# Altium integrated library Altium_WCAP-CSGP (rev22a).IntLib: 953 symbols (part 3 of 17)
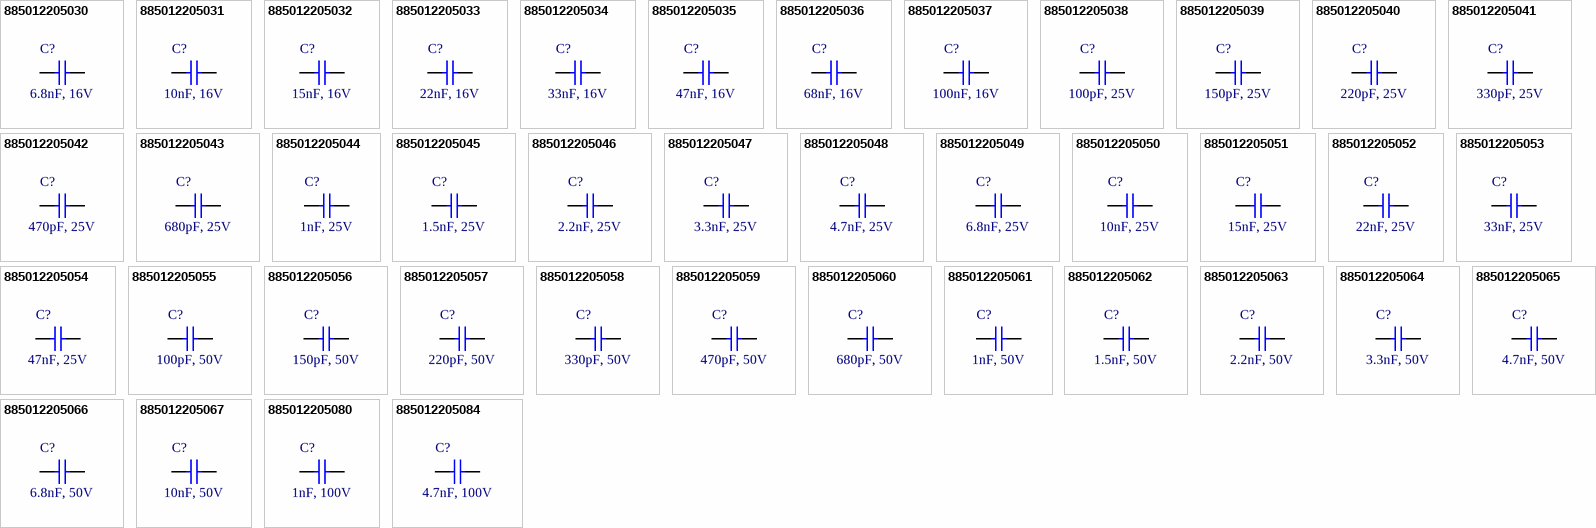
[diagram p29: symbols 885012205030 to 885012205084]

## 885012205030
designator C?, comment 6.8nF, 16V
WCAP-CSGP Multilayer Ceramic Chip Capacitor, General Purpose, size 0402, X7R, 6.8nF, 16V; Manufacturer: Wurth Elektronik; Manufacturer Part Number: 885012205030; Capacitance Tolerance: +/-10%; Dissipation Factor: 3.5%; Isolation Resistance: 10GOhm; Technical Reference: X7R0402682K016DFCT10000; Capacitance: 6.8nF; Ceramic Type: X7R; ComponentLink1Description: Manufacturer Link; ComponentLink1URL: http://www.we-online.de; ComponentLink2Description: Datasheet; ComponentLink2URL: https://www.we-online.com/catalog/datasheet/885012205030.pdf; Height: 0.5mm; Length: 1mm; Mounting Technology: SMT; Operating Temperature max.: 125C; Operating Temperature min.: -55C; Packaging: Tape and Reel; Rated Voltage: 16V; Size: 0402; Width: 0.5mm
footprint WCAP-CSGP_0402_L1W0.5H0.5
pins: 1, 2

## 885012205031
designator C?, comment 10nF, 16V
WCAP-CSGP Multilayer Ceramic Chip Capacitor, General Purpose, size 0402, X7R, 10nF, 16V; Manufacturer: Wurth Elektronik; Manufacturer Part Number: 885012205031; Capacitance Tolerance: +/-10%; Dissipation Factor: 3.5%; Isolation Resistance: 10GOhm; Technical Reference: X7R0402103K016DFCT10000; Capacitance: 10nF; Ceramic Type: X7R; ComponentLink1Description: Manufacturer Link; ComponentLink1URL: http://www.we-online.de; ComponentLink2Description: Datasheet; ComponentLink2URL: https://www.we-online.com/catalog/datasheet/885012205031.pdf; Height: 0.5mm; Length: 1mm; Mounting Technology: SMT; Operating Temperature max.: 125C; Operating Temperature min.: -55C; Packaging: Tape and Reel; Rated Voltage: 16V; Size: 0402; Width: 0.5mm
footprint WCAP-CSGP_0402_L1W0.5H0.5
pins: 1, 2

## 885012205032
designator C?, comment 15nF, 16V
WCAP-CSGP Multilayer Ceramic Chip Capacitor, General Purpose, size 0402, X7R, 15nF, 16V; Manufacturer: Wurth Elektronik; Manufacturer Part Number: 885012205032; Capacitance Tolerance: +/-10%; Dissipation Factor: 3.5%; Isolation Resistance: 10GOhm; Technical Reference: X7R0402153K016DFCT10000; Capacitance: 15nF; Ceramic Type: X7R; ComponentLink1Description: Manufacturer Link; ComponentLink1URL: http://www.we-online.de; ComponentLink2Description: Datasheet; ComponentLink2URL: https://www.we-online.com/catalog/datasheet/885012205032.pdf; Height: 0.5mm; Length: 1mm; Mounting Technology: SMT; Operating Temperature max.: 125C; Operating Temperature min.: -55C; Packaging: Tape and Reel; Rated Voltage: 16V; Size: 0402; Width: 0.5mm
footprint WCAP-CSGP_0402_L1W0.5H0.5
pins: 1, 2

## 885012205033
designator C?, comment 22nF, 16V
WCAP-CSGP Multilayer Ceramic Chip Capacitor, General Purpose, size 0402, X7R, 22nF, 16V; Manufacturer: Wurth Elektronik; Manufacturer Part Number: 885012205033; Capacitance Tolerance: +/-10%; Dissipation Factor: 3.5%; Isolation Resistance: 10GOhm; Technical Reference: X7R0402223K016DFCT10000; Capacitance: 22nF; Ceramic Type: X7R; ComponentLink1Description: Manufacturer Link; ComponentLink1URL: http://www.we-online.de; ComponentLink2Description: Datasheet; ComponentLink2URL: https://www.we-online.com/catalog/datasheet/885012205033.pdf; Height: 0.5mm; Length: 1mm; Mounting Technology: SMT; Operating Temperature max.: 125C; Operating Temperature min.: -55C; Packaging: Tape and Reel; Rated Voltage: 16V; Size: 0402; Width: 0.5mm
footprint WCAP-CSGP_0402_L1W0.5H0.5
pins: 1, 2

## 885012205034
designator C?, comment 33nF, 16V
WCAP-CSGP Multilayer Ceramic Chip Capacitor, General Purpose, size 0402, X7R, 33nF, 16V; Manufacturer: Wurth Elektronik; Manufacturer Part Number: 885012205034; Capacitance Tolerance: +/-10%; Dissipation Factor: 5%; Isolation Resistance: 10GOhm; Technical Reference: X7R0402333K016DFCT10000; Capacitance: 33nF; Ceramic Type: X7R; ComponentLink1Description: Manufacturer Link; ComponentLink1URL: http://www.we-online.de; ComponentLink2Description: Datasheet; ComponentLink2URL: https://www.we-online.com/catalog/datasheet/885012205034.pdf; Height: 0.5mm; Length: 1mm; Mounting Technology: SMT; Operating Temperature max.: 125C; Operating Temperature min.: -55C; Packaging: Tape and Reel; Rated Voltage: 16V; Size: 0402; Width: 0.5mm
footprint WCAP-CSGP_0402_L1W0.5H0.5
pins: 1, 2

## 885012205035
designator C?, comment 47nF, 16V
WCAP-CSGP Multilayer Ceramic Chip Capacitor, General Purpose, size 0402, X7R, 47nF, 16V; Manufacturer: Wurth Elektronik; Manufacturer Part Number: 885012205035; Capacitance Tolerance: +/-10%; Dissipation Factor: 5%; Isolation Resistance: 10GOhm; Technical Reference: X7R0402473K016DFCT10000; Capacitance: 47nF; Ceramic Type: X7R; ComponentLink1Description: Manufacturer Link; ComponentLink1URL: http://www.we-online.de; ComponentLink2Description: Datasheet; ComponentLink2URL: https://www.we-online.com/catalog/datasheet/885012205035.pdf; Height: 0.5mm; Length: 1mm; Mounting Technology: SMT; Operating Temperature max.: 125C; Operating Temperature min.: -55C; Packaging: Tape and Reel; Rated Voltage: 16V; Size: 0402; Width: 0.5mm
footprint WCAP-CSGP_0402_L1W0.5H0.5
pins: 1, 2

## 885012205036
designator C?, comment 68nF, 16V
WCAP-CSGP Multilayer Ceramic Chip Capacitor, General Purpose, size 0402, X7R, 68nF, 16V; Manufacturer: Wurth Elektronik; Manufacturer Part Number: 885012205036; Capacitance Tolerance: +/-10%; Dissipation Factor: 5%; Isolation Resistance: 7.4GOhm; Technical Reference: X7R0402683K016DFCT10000; Capacitance: 68nF; Ceramic Type: X7R; ComponentLink1Description: Manufacturer Link; ComponentLink1URL: http://www.we-online.de; ComponentLink2Description: Datasheet; ComponentLink2URL: https://www.we-online.com/catalog/datasheet/885012205036.pdf; Height: 0.5mm; Length: 1mm; Mounting Technology: SMT; Operating Temperature max.: 125C; Operating Temperature min.: -55C; Packaging: Tape and Reel; Rated Voltage: 16V; Size: 0402; Width: 0.5mm
footprint WCAP-CSGP_0402_L1W0.5H0.5
pins: 1, 2

## 885012205037
designator C?, comment 100nF, 16V
WCAP-CSGP Multilayer Ceramic Chip Capacitor, General Purpose, size 0402, X7R, 100nF, 16V; Manufacturer: Wurth Elektronik; Manufacturer Part Number: 885012205037; Capacitance Tolerance: +/-10%; Dissipation Factor: 5%; Isolation Resistance: 5GOhm; Technical Reference: X7R0402104K016DFCT10000; Capacitance: 100nF; Ceramic Type: X7R; ComponentLink1Description: Manufacturer Link; ComponentLink1URL: http://www.we-online.de; ComponentLink2Description: Datasheet; ComponentLink2URL: https://www.we-online.com/catalog/datasheet/885012205037.pdf; Height: 0.5mm; Length: 1mm; Mounting Technology: SMT; Operating Temperature max.: 125C; Operating Temperature min.: -55C; Packaging: Tape and Reel; Rated Voltage: 16V; Size: 0402; Width: 0.5mm
footprint WCAP-CSGP_0402_L1W0.5H0.5
pins: 1, 2

## 885012205038
designator C?, comment 100pF, 25V
WCAP-CSGP Multilayer Ceramic Chip Capacitor, General Purpose, size 0402, X7R, 100pF, 25V; Manufacturer: Wurth Elektronik; Manufacturer Part Number: 885012205038; Capacitance Tolerance: +/-10%; Dissipation Factor: 3.5%; Isolation Resistance: 10GOhm; Technical Reference: X7R0402101K025DFCT10000; Capacitance: 100pF; Ceramic Type: X7R; ComponentLink1Description: Manufacturer Link; ComponentLink1URL: http://www.we-online.de; ComponentLink2Description: Datasheet; ComponentLink2URL: https://www.we-online.com/catalog/datasheet/885012205038.pdf; Height: 0.5mm; Length: 1mm; Mounting Technology: SMT; Operating Temperature max.: 125C; Operating Temperature min.: -55C; Packaging: Tape and Reel; Rated Voltage: 25V; Size: 0402; Width: 0.5mm
footprint WCAP-CSGP_0402_L1W0.5H0.5
pins: 1, 2

## 885012205039
designator C?, comment 150pF, 25V
WCAP-CSGP Multilayer Ceramic Chip Capacitor, General Purpose, size 0402, X7R, 150pF, 25V; Manufacturer: Wurth Elektronik; Manufacturer Part Number: 885012205039; Capacitance Tolerance: +/-10%; Dissipation Factor: 3.5%; Isolation Resistance: 10GOhm; Technical Reference: X7R0402151K025DFCT10000; Capacitance: 150pF; Ceramic Type: X7R; ComponentLink1Description: Manufacturer Link; ComponentLink1URL: http://www.we-online.de; ComponentLink2Description: Datasheet; ComponentLink2URL: https://www.we-online.com/catalog/datasheet/885012205039.pdf; Height: 0.5mm; Length: 1mm; Mounting Technology: SMT; Operating Temperature max.: 125C; Operating Temperature min.: -55C; Packaging: Tape and Reel; Rated Voltage: 25V; Size: 0402; Width: 0.5mm
footprint WCAP-CSGP_0402_L1W0.5H0.5
pins: 1, 2

## 885012205040
designator C?, comment 220pF, 25V
WCAP-CSGP Multilayer Ceramic Chip Capacitor, General Purpose, size 0402, X7R, 220pF, 25V; Manufacturer: Wurth Elektronik; Manufacturer Part Number: 885012205040; Capacitance Tolerance: +/-10%; Dissipation Factor: 3.5%; Isolation Resistance: 10GOhm; Technical Reference: X7R0402221K025DFCT10000; Capacitance: 220pF; Ceramic Type: X7R; ComponentLink1Description: Manufacturer Link; ComponentLink1URL: http://www.we-online.de; ComponentLink2Description: Datasheet; ComponentLink2URL: https://www.we-online.com/catalog/datasheet/885012205040.pdf; Height: 0.5mm; Length: 1mm; Mounting Technology: SMT; Operating Temperature max.: 125C; Operating Temperature min.: -55C; Packaging: Tape and Reel; Rated Voltage: 25V; Size: 0402; Width: 0.5mm
footprint WCAP-CSGP_0402_L1W0.5H0.5
pins: 1, 2

## 885012205041
designator C?, comment 330pF, 25V
WCAP-CSGP Multilayer Ceramic Chip Capacitor, General Purpose, size 0402, X7R, 330pF, 25V; Manufacturer: Wurth Elektronik; Manufacturer Part Number: 885012205041; Capacitance Tolerance: +/-10%; Dissipation Factor: 3.5%; Isolation Resistance: 10GOhm; Technical Reference: X7R0402331K025DFCT10000; Capacitance: 330pF; Ceramic Type: X7R; ComponentLink1Description: Manufacturer Link; ComponentLink1URL: http://www.we-online.de; ComponentLink2Description: Datasheet; ComponentLink2URL: https://www.we-online.com/catalog/datasheet/885012205041.pdf; Height: 0.5mm; Length: 1mm; Mounting Technology: SMT; Operating Temperature max.: 125C; Operating Temperature min.: -55C; Packaging: Tape and Reel; Rated Voltage: 25V; Size: 0402; Width: 0.5mm
footprint WCAP-CSGP_0402_L1W0.5H0.5
pins: 1, 2

## 885012205042
designator C?, comment 470pF, 25V
WCAP-CSGP Multilayer Ceramic Chip Capacitor, General Purpose, size 0402, X7R, 470pF, 25V; Manufacturer: Wurth Elektronik; Manufacturer Part Number: 885012205042; Capacitance Tolerance: +/-10%; Dissipation Factor: 3.5%; Isolation Resistance: 10GOhm; Technical Reference: X7R0402471K025DFCT10000; Capacitance: 470pF; Ceramic Type: X7R; ComponentLink1Description: Manufacturer Link; ComponentLink1URL: http://www.we-online.de; ComponentLink2Description: Datasheet; ComponentLink2URL: https://www.we-online.com/catalog/datasheet/885012205042.pdf; Height: 0.5mm; Length: 1mm; Mounting Technology: SMT; Operating Temperature max.: 125C; Operating Temperature min.: -55C; Packaging: Tape and Reel; Rated Voltage: 25V; Size: 0402; Width: 0.5mm
footprint WCAP-CSGP_0402_L1W0.5H0.5
pins: 1, 2

## 885012205043
designator C?, comment 680pF, 25V
WCAP-CSGP Multilayer Ceramic Chip Capacitor, General Purpose, size 0402, X7R, 680pF, 25V; Manufacturer: Wurth Elektronik; Manufacturer Part Number: 885012205043; Capacitance Tolerance: +/-10%; Dissipation Factor: 3.5%; Isolation Resistance: 10GOhm; Technical Reference: X7R0402681K025DFCT10000; Capacitance: 680pF; Ceramic Type: X7R; ComponentLink1Description: Manufacturer Link; ComponentLink1URL: http://www.we-online.de; ComponentLink2Description: Datasheet; ComponentLink2URL: https://www.we-online.com/catalog/datasheet/885012205043.pdf; Height: 0.5mm; Length: 1mm; Mounting Technology: SMT; Operating Temperature max.: 125C; Operating Temperature min.: -55C; Packaging: Tape and Reel; Rated Voltage: 25V; Size: 0402; Width: 0.5mm
footprint WCAP-CSGP_0402_L1W0.5H0.5
pins: 1, 2

## 885012205044
designator C?, comment 1nF, 25V
WCAP-CSGP Multilayer Ceramic Chip Capacitor, General Purpose, size 0402, X7R, 1nF, 25V; Manufacturer: Wurth Elektronik; Manufacturer Part Number: 885012205044; Capacitance Tolerance: +/-10%; Dissipation Factor: 3.5%; Isolation Resistance: 10GOhm; Technical Reference: X7R0402102K025DFCT10000; Capacitance: 1nF; Ceramic Type: X7R; ComponentLink1Description: Manufacturer Link; ComponentLink1URL: http://www.we-online.de; ComponentLink2Description: Datasheet; ComponentLink2URL: https://www.we-online.com/catalog/datasheet/885012205044.pdf; Height: 0.5mm; Length: 1mm; Mounting Technology: SMT; Operating Temperature max.: 125C; Operating Temperature min.: -55C; Packaging: Tape and Reel; Rated Voltage: 25V; Size: 0402; Width: 0.5mm
footprint WCAP-CSGP_0402_L1W0.5H0.5
pins: 1, 2

## 885012205045
designator C?, comment 1.5nF, 25V
WCAP-CSGP Multilayer Ceramic Chip Capacitor, General Purpose, size 0402, X7R, 1.5nF, 25V; Manufacturer: Wurth Elektronik; Manufacturer Part Number: 885012205045; Capacitance Tolerance: +/-10%; Dissipation Factor: 3.5%; Isolation Resistance: 10GOhm; Technical Reference: X7R0402152K025DFCT10000; Capacitance: 1.5nF; Ceramic Type: X7R; ComponentLink1Description: Manufacturer Link; ComponentLink1URL: http://www.we-online.de; ComponentLink2Description: Datasheet; ComponentLink2URL: https://www.we-online.com/catalog/datasheet/885012205045.pdf; Height: 0.5mm; Length: 1mm; Mounting Technology: SMT; Operating Temperature max.: 125C; Operating Temperature min.: -55C; Packaging: Tape and Reel; Rated Voltage: 25V; Size: 0402; Width: 0.5mm
footprint WCAP-CSGP_0402_L1W0.5H0.5
pins: 1, 2

## 885012205046
designator C?, comment 2.2nF, 25V
WCAP-CSGP Multilayer Ceramic Chip Capacitor, General Purpose, size 0402, X7R, 2.2nF, 25V; Manufacturer: Wurth Elektronik; Manufacturer Part Number: 885012205046; Capacitance Tolerance: +/-10%; Dissipation Factor: 3.5%; Isolation Resistance: 10GOhm; Technical Reference: X7R0402222K025DFCT10000; Capacitance: 2.2nF; Ceramic Type: X7R; ComponentLink1Description: Manufacturer Link; ComponentLink1URL: http://www.we-online.de; ComponentLink2Description: Datasheet; ComponentLink2URL: https://www.we-online.com/catalog/datasheet/885012205046.pdf; Height: 0.5mm; Length: 1mm; Mounting Technology: SMT; Operating Temperature max.: 125C; Operating Temperature min.: -55C; Packaging: Tape and Reel; Rated Voltage: 25V; Size: 0402; Width: 0.5mm
footprint WCAP-CSGP_0402_L1W0.5H0.5
pins: 1, 2

## 885012205047
designator C?, comment 3.3nF, 25V
WCAP-CSGP Multilayer Ceramic Chip Capacitor, General Purpose, size 0402, X7R, 3.3nF, 25V; Manufacturer: Wurth Elektronik; Manufacturer Part Number: 885012205047; Capacitance Tolerance: +/-10%; Dissipation Factor: 3.5%; Isolation Resistance: 10GOhm; Technical Reference: X7R0402332K025DFCT10000; Capacitance: 3.3nF; Ceramic Type: X7R; ComponentLink1Description: Manufacturer Link; ComponentLink1URL: http://www.we-online.de; ComponentLink2Description: Datasheet; ComponentLink2URL: https://www.we-online.com/catalog/datasheet/885012205047.pdf; Height: 0.5mm; Length: 1mm; Mounting Technology: SMT; Operating Temperature max.: 125C; Operating Temperature min.: -55C; Packaging: Tape and Reel; Rated Voltage: 25V; Size: 0402; Width: 0.5mm
footprint WCAP-CSGP_0402_L1W0.5H0.5
pins: 1, 2

## 885012205048
designator C?, comment 4.7nF, 25V
WCAP-CSGP Multilayer Ceramic Chip Capacitor, General Purpose, size 0402, X7R, 4.7nF, 25V; Manufacturer: Wurth Elektronik; Manufacturer Part Number: 885012205048; Capacitance Tolerance: +/-10%; Dissipation Factor: 3.5%; Isolation Resistance: 10GOhm; Technical Reference: X7R0402472K025DFCT10000; Capacitance: 4.7nF; Ceramic Type: X7R; ComponentLink1Description: Manufacturer Link; ComponentLink1URL: http://www.we-online.de; ComponentLink2Description: Datasheet; ComponentLink2URL: https://www.we-online.com/catalog/datasheet/885012205048.pdf; Height: 0.5mm; Length: 1mm; Mounting Technology: SMT; Operating Temperature max.: 125C; Operating Temperature min.: -55C; Packaging: Tape and Reel; Rated Voltage: 25V; Size: 0402; Width: 0.5mm
footprint WCAP-CSGP_0402_L1W0.5H0.5
pins: 1, 2

## 885012205049
designator C?, comment 6.8nF, 25V
WCAP-CSGP Multilayer Ceramic Chip Capacitor, General Purpose, size 0402, X7R, 6.8nF, 25V; Manufacturer: Wurth Elektronik; Manufacturer Part Number: 885012205049; Capacitance Tolerance: +/-10%; Dissipation Factor: 3.5%; Isolation Resistance: 10GOhm; Technical Reference: X7R0402682K025DFCT10000; Capacitance: 6.8nF; Ceramic Type: X7R; ComponentLink1Description: Manufacturer Link; ComponentLink1URL: http://www.we-online.de; ComponentLink2Description: Datasheet; ComponentLink2URL: https://www.we-online.com/catalog/datasheet/885012205049.pdf; Height: 0.5mm; Length: 1mm; Mounting Technology: SMT; Operating Temperature max.: 125C; Operating Temperature min.: -55C; Packaging: Tape and Reel; Rated Voltage: 25V; Size: 0402; Width: 0.5mm
footprint WCAP-CSGP_0402_L1W0.5H0.5
pins: 1, 2

## 885012205050
designator C?, comment 10nF, 25V
WCAP-CSGP Multilayer Ceramic Chip Capacitor, General Purpose, size 0402, X7R, 10nF, 25V; Manufacturer: Wurth Elektronik; Manufacturer Part Number: 885012205050; Capacitance Tolerance: +/-10%; Dissipation Factor: 3.5%; Isolation Resistance: 10GOhm; Technical Reference: X7R0402103K025DFCT10000; Capacitance: 10nF; Ceramic Type: X7R; ComponentLink1Description: Manufacturer Link; ComponentLink1URL: http://www.we-online.de; ComponentLink2Description: Datasheet; ComponentLink2URL: https://www.we-online.com/catalog/datasheet/885012205050.pdf; Height: 0.5mm; Length: 1mm; Mounting Technology: SMT; Operating Temperature max.: 125C; Operating Temperature min.: -55C; Packaging: Tape and Reel; Rated Voltage: 25V; Size: 0402; Width: 0.5mm
footprint WCAP-CSGP_0402_L1W0.5H0.5
pins: 1, 2

## 885012205051
designator C?, comment 15nF, 25V
WCAP-CSGP Multilayer Ceramic Chip Capacitor, General Purpose, size 0402, X7R, 15nF, 25V; Manufacturer: Wurth Elektronik; Manufacturer Part Number: 885012205051; Capacitance Tolerance: +/-10%; Dissipation Factor: 3.5%; Isolation Resistance: 10GOhm; Technical Reference: X7R0402153K025DFCT10000; Capacitance: 15nF; Ceramic Type: X7R; ComponentLink1Description: Manufacturer Link; ComponentLink1URL: http://www.we-online.de; ComponentLink2Description: Datasheet; ComponentLink2URL: https://www.we-online.com/catalog/datasheet/885012205051.pdf; Height: 0.5mm; Length: 1mm; Mounting Technology: SMT; Operating Temperature max.: 125C; Operating Temperature min.: -55C; Packaging: Tape and Reel; Rated Voltage: 25V; Size: 0402; Width: 0.5mm
footprint WCAP-CSGP_0402_L1W0.5H0.5
pins: 1, 2

## 885012205052
designator C?, comment 22nF, 25V
WCAP-CSGP Multilayer Ceramic Chip Capacitor, General Purpose, size 0402, X7R, 22nF, 25V; Manufacturer: Wurth Elektronik; Manufacturer Part Number: 885012205052; Capacitance Tolerance: +/-10%; Dissipation Factor: 3.5%; Isolation Resistance: 10GOhm; Technical Reference: X7R0402223K025DFCT10000; Capacitance: 22nF; Ceramic Type: X7R; ComponentLink1Description: Manufacturer Link; ComponentLink1URL: http://www.we-online.de; ComponentLink2Description: Datasheet; ComponentLink2URL: https://www.we-online.com/catalog/datasheet/885012205052.pdf; Height: 0.5mm; Length: 1mm; Mounting Technology: SMT; Operating Temperature max.: 125C; Operating Temperature min.: -55C; Packaging: Tape and Reel; Rated Voltage: 25V; Size: 0402; Width: 0.5mm
footprint WCAP-CSGP_0402_L1W0.5H0.5
pins: 1, 2

## 885012205053
designator C?, comment 33nF, 25V
WCAP-CSGP Multilayer Ceramic Chip Capacitor, General Purpose, size 0402, X7R, 33nF, 25V; Manufacturer: Wurth Elektronik; Manufacturer Part Number: 885012205053; Capacitance Tolerance: +/-10%; Dissipation Factor: 3.5%; Isolation Resistance: 10GOhm; Technical Reference: X7R0402333K025DFCT10000; Capacitance: 33nF; Ceramic Type: X7R; ComponentLink1Description: Manufacturer Link; ComponentLink1URL: http://www.we-online.de; ComponentLink2Description: Datasheet; ComponentLink2URL: https://www.we-online.com/catalog/datasheet/885012205053.pdf; Height: 0.5mm; Length: 1mm; Mounting Technology: SMT; Operating Temperature max.: 125C; Operating Temperature min.: -55C; Packaging: Tape and Reel; Rated Voltage: 25V; Size: 0402; Width: 0.5mm
footprint WCAP-CSGP_0402_L1W0.5H0.5
pins: 1, 2

## 885012205054
designator C?, comment 47nF, 25V
WCAP-CSGP Multilayer Ceramic Chip Capacitor, General Purpose, size 0402, X7R, 47nF, 25V; Manufacturer: Wurth Elektronik; Manufacturer Part Number: 885012205054; Capacitance Tolerance: +/-10%; Dissipation Factor: 3.5%; Isolation Resistance: 10GOhm; Technical Reference: X7R0402473K025DFCT10000; Capacitance: 47nF; Ceramic Type: X7R; ComponentLink1Description: Manufacturer Link; ComponentLink1URL: http://www.we-online.de; ComponentLink2Description: Datasheet; ComponentLink2URL: https://www.we-online.com/catalog/datasheet/885012205054.pdf; Height: 0.5mm; Length: 1mm; Mounting Technology: SMT; Operating Temperature max.: 125C; Operating Temperature min.: -55C; Packaging: Tape and Reel; Rated Voltage: 25V; Size: 0402; Width: 0.5mm
footprint WCAP-CSGP_0402_L1W0.5H0.5
pins: 1, 2

## 885012205055
designator C?, comment 100pF, 50V
WCAP-CSGP Multilayer Ceramic Chip Capacitor, General Purpose, size 0402, X7R, 100pF, 50V; Manufacturer: Wurth Elektronik; Manufacturer Part Number: 885012205055; Capacitance Tolerance: +/-10%; Dissipation Factor: 2.5%; Isolation Resistance: 10GOhm; Technical Reference: X7R0402101K050DFCT10000; Capacitance: 100pF; Ceramic Type: X7R; ComponentLink1Description: Manufacturer Link; ComponentLink1URL: http://www.we-online.de; ComponentLink2Description: Datasheet; ComponentLink2URL: https://www.we-online.com/catalog/datasheet/885012205055.pdf; Height: 0.5mm; Length: 1mm; Mounting Technology: SMT; Operating Temperature max.: 125C; Operating Temperature min.: -55C; Packaging: Tape and Reel; Rated Voltage: 50V; Size: 0402; Width: 0.5mm
footprint WCAP-CSGP_0402_L1W0.5H0.5
pins: 1, 2

## 885012205056
designator C?, comment 150pF, 50V
WCAP-CSGP Multilayer Ceramic Chip Capacitor, General Purpose, size 0402, X7R, 150pF, 50V; Manufacturer: Wurth Elektronik; Manufacturer Part Number: 885012205056; Capacitance Tolerance: +/-10%; Dissipation Factor: 2.5%; Isolation Resistance: 10GOhm; Technical Reference: X7R0402151K050DFCT10000; Capacitance: 150pF; Ceramic Type: X7R; ComponentLink1Description: Manufacturer Link; ComponentLink1URL: http://www.we-online.de; ComponentLink2Description: Datasheet; ComponentLink2URL: https://www.we-online.com/catalog/datasheet/885012205056.pdf; Height: 0.5mm; Length: 1mm; Mounting Technology: SMT; Operating Temperature max.: 125C; Operating Temperature min.: -55C; Packaging: Tape and Reel; Rated Voltage: 50V; Size: 0402; Width: 0.5mm
footprint WCAP-CSGP_0402_L1W0.5H0.5
pins: 1, 2

## 885012205057
designator C?, comment 220pF, 50V
WCAP-CSGP Multilayer Ceramic Chip Capacitor, General Purpose, size 0402, X7R, 220pF, 50V; Manufacturer: Wurth Elektronik; Manufacturer Part Number: 885012205057; Capacitance Tolerance: +/-10%; Dissipation Factor: 2.5%; Isolation Resistance: 10GOhm; Technical Reference: X7R0402221K050DFCT10000; Capacitance: 220pF; Ceramic Type: X7R; ComponentLink1Description: Manufacturer Link; ComponentLink1URL: http://www.we-online.de; ComponentLink2Description: Datasheet; ComponentLink2URL: https://www.we-online.com/catalog/datasheet/885012205057.pdf; Height: 0.5mm; Length: 1mm; Mounting Technology: SMT; Operating Temperature max.: 125C; Operating Temperature min.: -55C; Packaging: Tape and Reel; Rated Voltage: 50V; Size: 0402; Width: 0.5mm
footprint WCAP-CSGP_0402_L1W0.5H0.5
pins: 1, 2

## 885012205058
designator C?, comment 330pF, 50V
WCAP-CSGP Multilayer Ceramic Chip Capacitor, General Purpose, size 0402, X7R, 330pF, 50V; Manufacturer: Wurth Elektronik; Manufacturer Part Number: 885012205058; Capacitance Tolerance: +/-10%; Dissipation Factor: 2.5%; Isolation Resistance: 10GOhm; Technical Reference: X7R0402331K050DFCT10000; Capacitance: 330pF; Ceramic Type: X7R; ComponentLink1Description: Manufacturer Link; ComponentLink1URL: http://www.we-online.de; ComponentLink2Description: Datasheet; ComponentLink2URL: https://www.we-online.com/catalog/datasheet/885012205058.pdf; Height: 0.5mm; Length: 1mm; Mounting Technology: SMT; Operating Temperature max.: 125C; Operating Temperature min.: -55C; Packaging: Tape and Reel; Rated Voltage: 50V; Size: 0402; Width: 0.5mm
footprint WCAP-CSGP_0402_L1W0.5H0.5
pins: 1, 2

## 885012205059
designator C?, comment 470pF, 50V
WCAP-CSGP Multilayer Ceramic Chip Capacitor, General Purpose, size 0402, X7R, 470pF, 50V; Manufacturer: Wurth Elektronik; Manufacturer Part Number: 885012205059; Capacitance Tolerance: +/-10%; Dissipation Factor: 2.5%; Isolation Resistance: 10GOhm; Technical Reference: X7R0402471K050DFCT10000; Capacitance: 470pF; Ceramic Type: X7R; ComponentLink1Description: Manufacturer Link; ComponentLink1URL: http://www.we-online.de; ComponentLink2Description: Datasheet; ComponentLink2URL: https://www.we-online.com/catalog/datasheet/885012205059.pdf; Height: 0.5mm; Length: 1mm; Mounting Technology: SMT; Operating Temperature max.: 125C; Operating Temperature min.: -55C; Packaging: Tape and Reel; Rated Voltage: 50V; Size: 0402; Width: 0.5mm
footprint WCAP-CSGP_0402_L1W0.5H0.5
pins: 1, 2

## 885012205060
designator C?, comment 680pF, 50V
WCAP-CSGP Multilayer Ceramic Chip Capacitor, General Purpose, size 0402, X7R, 680pF, 50V; Manufacturer: Wurth Elektronik; Manufacturer Part Number: 885012205060; Capacitance Tolerance: +/-10%; Dissipation Factor: 2.5%; Isolation Resistance: 10GOhm; Technical Reference: X7R0402681K050DFCT10000; Capacitance: 680pF; Ceramic Type: X7R; ComponentLink1Description: Manufacturer Link; ComponentLink1URL: http://www.we-online.de; ComponentLink2Description: Datasheet; ComponentLink2URL: https://www.we-online.com/catalog/datasheet/885012205060.pdf; Height: 0.5mm; Length: 1mm; Mounting Technology: SMT; Operating Temperature max.: 125C; Operating Temperature min.: -55C; Packaging: Tape and Reel; Rated Voltage: 50V; Size: 0402; Width: 0.5mm
footprint WCAP-CSGP_0402_L1W0.5H0.5
pins: 1, 2

## 885012205061
designator C?, comment 1nF, 50V
WCAP-CSGP Multilayer Ceramic Chip Capacitor, General Purpose, size 0402, X7R, 1nF, 50V; Manufacturer: Wurth Elektronik; Manufacturer Part Number: 885012205061; Capacitance Tolerance: +/-10%; Dissipation Factor: 2.5%; Isolation Resistance: 10GOhm; Technical Reference: X7R0402102K050DFCT10000; Capacitance: 1nF; Ceramic Type: X7R; ComponentLink1Description: Manufacturer Link; ComponentLink1URL: http://www.we-online.de; ComponentLink2Description: Datasheet; ComponentLink2URL: https://www.we-online.com/catalog/datasheet/885012205061.pdf; Height: 0.5mm; Length: 1mm; Mounting Technology: SMT; Operating Temperature max.: 125C; Operating Temperature min.: -55C; Packaging: Tape and Reel; Rated Voltage: 50V; Size: 0402; Width: 0.5mm
footprint WCAP-CSGP_0402_L1W0.5H0.5
pins: 1, 2

## 885012205062
designator C?, comment 1.5nF, 50V
WCAP-CSGP Multilayer Ceramic Chip Capacitor, General Purpose, size 0402, X7R, 1.5nF, 50V; Manufacturer: Wurth Elektronik; Manufacturer Part Number: 885012205062; Capacitance Tolerance: +/-10%; Dissipation Factor: 2.5%; Isolation Resistance: 10GOhm; Technical Reference: X7R0402152K050DFCT10000; Capacitance: 1.5nF; Ceramic Type: X7R; ComponentLink1Description: Manufacturer Link; ComponentLink1URL: http://www.we-online.de; ComponentLink2Description: Datasheet; ComponentLink2URL: https://www.we-online.com/catalog/datasheet/885012205062.pdf; Height: 0.5mm; Length: 1mm; Mounting Technology: SMT; Operating Temperature max.: 125C; Operating Temperature min.: -55C; Packaging: Tape and Reel; Rated Voltage: 50V; Size: 0402; Width: 0.5mm
footprint WCAP-CSGP_0402_L1W0.5H0.5
pins: 1, 2

## 885012205063
designator C?, comment 2.2nF, 50V
WCAP-CSGP Multilayer Ceramic Chip Capacitor, General Purpose, size 0402, X7R, 2.2nF, 50V; Manufacturer: Wurth Elektronik; Manufacturer Part Number: 885012205063; Capacitance Tolerance: +/-10%; Dissipation Factor: 2.5%; Isolation Resistance: 10GOhm; Technical Reference: X7R0402222K050DFCT10000; Capacitance: 2.2nF; Ceramic Type: X7R; ComponentLink1Description: Manufacturer Link; ComponentLink1URL: http://www.we-online.de; ComponentLink2Description: Datasheet; ComponentLink2URL: https://www.we-online.com/catalog/datasheet/885012205063.pdf; Height: 0.5mm; Length: 1mm; Mounting Technology: SMT; Operating Temperature max.: 125C; Operating Temperature min.: -55C; Packaging: Tape and Reel; Rated Voltage: 50V; Size: 0402; Width: 0.5mm
footprint WCAP-CSGP_0402_L1W0.5H0.5
pins: 1, 2

## 885012205064
designator C?, comment 3.3nF, 50V
WCAP-CSGP Multilayer Ceramic Chip Capacitor, General Purpose, size 0402, X7R, 3.3nF, 50V; Manufacturer: Wurth Elektronik; Manufacturer Part Number: 885012205064; Capacitance Tolerance: +/-10%; Dissipation Factor: 2.5%; Isolation Resistance: 10GOhm; Technical Reference: X7R0402332K050DFCT10000; Capacitance: 3.3nF; Ceramic Type: X7R; ComponentLink1Description: Manufacturer Link; ComponentLink1URL: http://www.we-online.de; ComponentLink2Description: Datasheet; ComponentLink2URL: https://www.we-online.com/catalog/datasheet/885012205064.pdf; Height: 0.5mm; Length: 1mm; Mounting Technology: SMT; Operating Temperature max.: 125C; Operating Temperature min.: -55C; Packaging: Tape and Reel; Rated Voltage: 50V; Size: 0402; Width: 0.5mm
footprint WCAP-CSGP_0402_L1W0.5H0.5
pins: 1, 2

## 885012205065
designator C?, comment 4.7nF, 50V
WCAP-CSGP Multilayer Ceramic Chip Capacitor, General Purpose, size 0402, X7R, 4.7nF, 50V; Manufacturer: Wurth Elektronik; Manufacturer Part Number: 885012205065; Capacitance Tolerance: +/-10%; Dissipation Factor: 2.5%; Isolation Resistance: 10GOhm; Technical Reference: X7R0402472K050DFCT10000; Capacitance: 4.7nF; Ceramic Type: X7R; ComponentLink1Description: Manufacturer Link; ComponentLink1URL: http://www.we-online.de; ComponentLink2Description: Datasheet; ComponentLink2URL: https://www.we-online.com/catalog/datasheet/885012205065.pdf; Height: 0.5mm; Length: 1mm; Mounting Technology: SMT; Operating Temperature max.: 125C; Operating Temperature min.: -55C; Packaging: Tape and Reel; Rated Voltage: 50V; Size: 0402; Width: 0.5mm
footprint WCAP-CSGP_0402_L1W0.5H0.5
pins: 1, 2

## 885012205066
designator C?, comment 6.8nF, 50V
WCAP-CSGP Multilayer Ceramic Chip Capacitor, General Purpose, size 0402, X7R, 6.8nF, 50V; Manufacturer: Wurth Elektronik; Manufacturer Part Number: 885012205066; Capacitance Tolerance: +/-10%; Dissipation Factor: 2.5%; Isolation Resistance: 10GOhm; Technical Reference: X7R0402682K050DFCT10000; Capacitance: 6.8nF; Ceramic Type: X7R; ComponentLink1Description: Manufacturer Link; ComponentLink1URL: http://www.we-online.de; ComponentLink2Description: Datasheet; ComponentLink2URL: https://www.we-online.com/catalog/datasheet/885012205066.pdf; Height: 0.5mm; Length: 1mm; Mounting Technology: SMT; Operating Temperature max.: 125C; Operating Temperature min.: -55C; Packaging: Tape and Reel; Rated Voltage: 50V; Size: 0402; Width: 0.5mm
footprint WCAP-CSGP_0402_L1W0.5H0.5
pins: 1, 2

## 885012205067
designator C?, comment 10nF, 50V
WCAP-CSGP Multilayer Ceramic Chip Capacitor, General Purpose, size 0402, X7R, 10nF, 50V; Manufacturer: Wurth Elektronik; Manufacturer Part Number: 885012205067; Capacitance Tolerance: +/-10%; Dissipation Factor: 2.5%; Isolation Resistance: 10GOhm; Technical Reference: X7R0402103K050DFCT10000; Capacitance: 10nF; Ceramic Type: X7R; ComponentLink1Description: Manufacturer Link; ComponentLink1URL: http://www.we-online.de; ComponentLink2Description: Datasheet; ComponentLink2URL: https://www.we-online.com/catalog/datasheet/885012205067.pdf; Height: 0.5mm; Length: 1mm; Mounting Technology: SMT; Operating Temperature max.: 125C; Operating Temperature min.: -55C; Packaging: Tape and Reel; Rated Voltage: 50V; Size: 0402; Width: 0.5mm
footprint WCAP-CSGP_0402_L1W0.5H0.5
pins: 1, 2

## 885012205080
designator C?, comment 1nF, 100V
WCAP-CSGP Multilayer Ceramic Chip Capacitor, General Purpose, size 0402, X7R, 1nF, 100V; Manufacturer: Wurth Elektronik; Manufacturer Part Number: 885012205080; Capacitance Tolerance: +/-10%; Dissipation Factor: 2.5%; Isolation Resistance: 10GOhm; Technical Reference: X7R0402102K100DFCT10000; Capacitance: 1nF; Ceramic Type: X7R; ComponentLink1Description: Manufacturer Link; ComponentLink1URL: http://www.we-online.de; ComponentLink2Description: Datasheet; ComponentLink2URL: https://www.we-online.com/catalog/datasheet/885012205080.pdf; Height: 0.5mm; Length: 1mm; Mounting Technology: SMT; Operating Temperature max.: 125C; Operating Temperature min.: -55C; Packaging: Tape and Reel; Rated Voltage: 100V; Size: 0402; Width: 0.5mm
footprint WCAP-CSGP_0402_L1W0.5H0.5
pins: 1, 2

## 885012205084
designator C?, comment 4.7nF, 100V
WCAP-CSGP Multilayer Ceramic Chip Capacitor, General Purpose, size 0402, X7R, 4.7nF, 100V; Manufacturer: Wurth Elektronik; Manufacturer Part Number: 885012205084; Capacitance Tolerance: +/-10%; Dissipation Factor: 2.5%; Isolation Resistance: 10GOhm; Technical Reference: X7R0402472K100DFCT10000; Capacitance: 4.7nF; Ceramic Type: X7R; ComponentLink1Description: Manufacturer Link; ComponentLink1URL: http://www.we-online.de; ComponentLink2Description: Datasheet; ComponentLink2URL: https://www.we-online.com/catalog/datasheet/885012205084.pdf; Height: 0.5mm; Length: 1mm; Mounting Technology: SMT; Operating Temperature max.: 125C; Operating Temperature min.: -55C; Packaging: Tape and Reel; Rated Voltage: 100V; Size: 0402; Width: 0.5mm
footprint WCAP-CSGP_0402_L1W0.5H0.5
pins: 1, 2

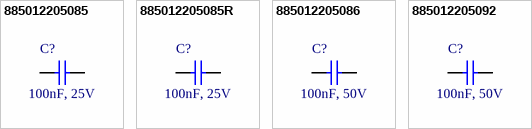
[diagram p4: symbols 885012205085 to 885012205092]

## 885012205085
designator C?, comment 100nF, 25V
WCAP-CSGP Multilayer Ceramic Chip Capacitor, General Purpose, size 0402, X7R, 100nF, 25V; Manufacturer: Wurth Elektronik; Manufacturer Part Number: 885012205085; Capacitance Tolerance: +/-10%; Dissipation Factor: 10%; Isolation Resistance: 5GOhm; Technical Reference: X7R0402104K025DFCT10000; Capacitance: 100nF; Ceramic Type: X7R; ComponentLink1Description: Manufacturer Link; ComponentLink1URL: http://www.we-online.de; ComponentLink2Description: Datasheet; ComponentLink2URL: https://www.we-online.com/catalog/datasheet/885012205085.pdf; Height: 0.5mm; Length: 1mm; Mounting Technology: SMT; Operating Temperature max.: 125C; Operating Temperature min.: -55C; Packaging: Tape and Reel; Rated Voltage: 25V; Size: 0402; Width: 0.5mm
footprint WCAP-CSGP_0402_L1W0.5H0.5
pins: 1, 2

## 885012205085R
designator C?, comment 100nF, 25V
WCAP-CSGP Multilayer Ceramic Chip Capacitor, General Purpose, size 0402, X7R, 100nF, 25V; Manufacturer: Wurth Elektronik; Manufacturer Part Number: 885012205085R; Capacitance Tolerance: +/-10%; Dissipation Factor: 10%; Isolation Resistance: 5GOhm; Technical Reference: X7R0402104K025DFCT20000; Capacitance: 100nF; Ceramic Type: X7R; ComponentLink1Description: Manufacturer Link; ComponentLink1URL: http://www.we-online.de; ComponentLink2Description: Datasheet; ComponentLink2URL: https://www.we-online.com/catalog/datasheet/885012205085R.pdf; Height: 0.5mm; Length: 1mm; Mounting Technology: SMT; Operating Temperature max.: 125C; Operating Temperature min.: -55C; Packaging: Tape and Reel; Rated Voltage: 25V; Size: 0402; Width: 0.5mm
footprint WCAP-CSGP_0402_L1W0.5H0.5
pins: 1, 2

## 885012205086
designator C?, comment 100nF, 50V
WCAP-CSGP Multilayer Ceramic Chip Capacitor, General Purpose, size 0402, X7R, 100nF, 50V; Manufacturer: Wurth Elektronik; Manufacturer Part Number: 885012205086; Capacitance Tolerance: +/-10%; Dissipation Factor: 10%; Isolation Resistance: 0.5GOhm; Technical Reference: X7R0402104K050DFCT10000; Capacitance: 100nF; Ceramic Type: X7R; ComponentLink1Description: Manufacturer Link; ComponentLink1URL: http://www.we-online.de; ComponentLink2Description: Datasheet; ComponentLink2URL: https://www.we-online.com/catalog/datasheet/885012205086.pdf; Height: 0.5mm; Length: 1mm; Mounting Technology: SMT; Operating Temperature max.: 125C; Operating Temperature min.: -55C; Packaging: Tape and Reel; Rated Voltage: 50V; Size: 0402; Width: 0.5mm
footprint WCAP-CSGP_0402_L1W0.5H0.5
pins: 1, 2

## 885012205092
designator C?, comment 100nF, 50V
WCAP-CSGP Multilayer Ceramic Chip Capacitor, General Purpose, size 0402, X7R, 100nF, 50V; Manufacturer: Wurth Elektronik; Manufacturer Part Number: 885012205092; Capacitance Tolerance: +/-5%; Dissipation Factor: 10%; Isolation Resistance: 0.5GOhm; Technical Reference: X7R0402104J050DFCT10000; Capacitance: 100nF; Ceramic Type: X7R; ComponentLink1Description: Manufacturer Link; ComponentLink1URL: http://www.we-online.de; ComponentLink2Description: Datasheet; ComponentLink2URL: https://www.we-online.com/catalog/datasheet/885012205092.pdf; Height: 0.5mm; Length: 1mm; Mounting Technology: SMT; Operating Temperature max.: 125C; Operating Temperature min.: -55C; Packaging: Tape and Reel; Rated Voltage: 50V; Size: 0402; Width: 0.5mm
footprint WCAP-CSGP_0402_L1W0.5H0.5
pins: 1, 2


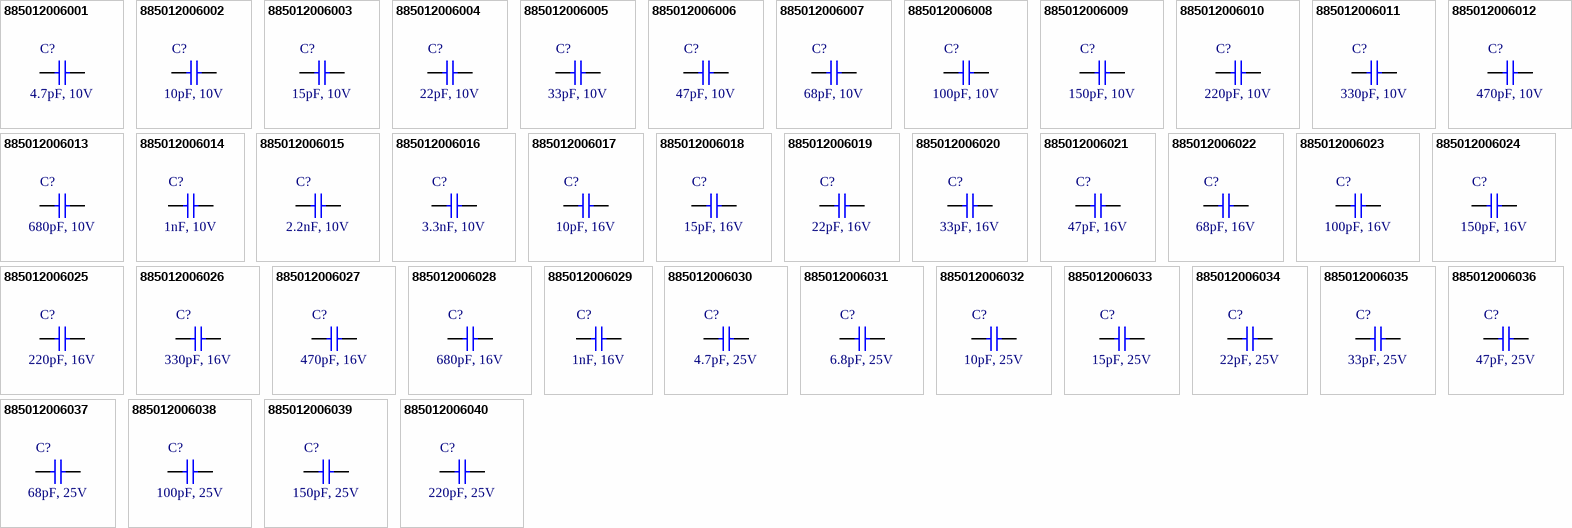
[diagram p5: symbols 885012006001 to 885012006040]

## 885012006001
designator C?, comment 4.7pF, 10V
WCAP-CSGP Multilayer Ceramic Chip Capacitor, General Purpose, size 0603, NP0, 4.7pF, 10V; Manufacturer: Wurth Elektronik; Manufacturer Part Number: 885012006001; Capacitance Tolerance: +/-0.5pF; Isolation Resistance: 10GOhm; Q-Factor: 494; Technical Reference: NP006034R7D010DFCT10000; Capacitance: 4.7pF; Ceramic Type: NP0; ComponentLink1Description: Manufacturer Link; ComponentLink1URL: http://www.we-online.de; ComponentLink2Description: Datasheet; ComponentLink2URL: https://www.we-online.com/catalog/datasheet/885012006001.pdf; Height: 0.8mm; Length: 1.6mm; Mounting Technology: SMT; Operating Temperature max.: 125C; Operating Temperature min.: -55C; Packaging: Tape and Reel; Rated Voltage: 10V; Size: 0603; Width: 0.8mm
footprint WCAP-CSGP_0603_L1.6W0.8H0.8_Wave
footprint WCAP-CSGP_0603_L1.6W0.8H0.8_Reflow
pins: 1, 2

## 885012006002
designator C?, comment 10pF, 10V
WCAP-CSGP Multilayer Ceramic Chip Capacitor, General Purpose, size 0603, NP0, 10pF, 10V; Manufacturer: Wurth Elektronik; Manufacturer Part Number: 885012006002; Capacitance Tolerance: +/-5%; Isolation Resistance: 10GOhm; Q-Factor: 600; Technical Reference: NP00603100J010DFCT10000; Capacitance: 10pF; Ceramic Type: NP0; ComponentLink1Description: Manufacturer Link; ComponentLink1URL: http://www.we-online.de; ComponentLink2Description: Datasheet; ComponentLink2URL: https://www.we-online.com/catalog/datasheet/885012006002.pdf; Height: 0.8mm; Length: 1.6mm; Mounting Technology: SMT; Operating Temperature max.: 125C; Operating Temperature min.: -55C; Packaging: Tape and Reel; Rated Voltage: 10V; Size: 0603; Width: 0.8mm
footprint WCAP-CSGP_0603_L1.6W0.8H0.8_Wave
footprint WCAP-CSGP_0603_L1.6W0.8H0.8_Reflow
pins: 1, 2

## 885012006003
designator C?, comment 15pF, 10V
WCAP-CSGP Multilayer Ceramic Chip Capacitor, General Purpose, size 0603, NP0, 15pF, 10V; Manufacturer: Wurth Elektronik; Manufacturer Part Number: 885012006003; Capacitance Tolerance: +/-5%; Isolation Resistance: 10GOhm; Q-Factor: 700; Technical Reference: NP00603150J010DFCT10000; Capacitance: 15pF; Ceramic Type: NP0; ComponentLink1Description: Manufacturer Link; ComponentLink1URL: http://www.we-online.de; ComponentLink2Description: Datasheet; ComponentLink2URL: https://www.we-online.com/catalog/datasheet/885012006003.pdf; Height: 0.8mm; Length: 1.6mm; Mounting Technology: SMT; Operating Temperature max.: 125C; Operating Temperature min.: -55C; Packaging: Tape and Reel; Rated Voltage: 10V; Size: 0603; Width: 0.8mm
footprint WCAP-CSGP_0603_L1.6W0.8H0.8_Wave
footprint WCAP-CSGP_0603_L1.6W0.8H0.8_Reflow
pins: 1, 2

## 885012006004
designator C?, comment 22pF, 10V
WCAP-CSGP Multilayer Ceramic Chip Capacitor, General Purpose, size 0603, NP0, 22pF, 10V; Manufacturer: Wurth Elektronik; Manufacturer Part Number: 885012006004; Capacitance Tolerance: +/-5%; Isolation Resistance: 10GOhm; Q-Factor: 840; Technical Reference: NP00603220J010DFCT10000; Capacitance: 22pF; Ceramic Type: NP0; ComponentLink1Description: Manufacturer Link; ComponentLink1URL: http://www.we-online.de; ComponentLink2Description: Datasheet; ComponentLink2URL: https://www.we-online.com/catalog/datasheet/885012006004.pdf; Height: 0.8mm; Length: 1.6mm; Mounting Technology: SMT; Operating Temperature max.: 125C; Operating Temperature min.: -55C; Packaging: Tape and Reel; Rated Voltage: 10V; Size: 0603; Width: 0.8mm
footprint WCAP-CSGP_0603_L1.6W0.8H0.8_Wave
footprint WCAP-CSGP_0603_L1.6W0.8H0.8_Reflow
pins: 1, 2

## 885012006005
designator C?, comment 33pF, 10V
WCAP-CSGP Multilayer Ceramic Chip Capacitor, General Purpose, size 0603, NP0, 33pF, 10V; Manufacturer: Wurth Elektronik; Manufacturer Part Number: 885012006005; Capacitance Tolerance: +/-5%; Isolation Resistance: 10GOhm; Q-Factor: 1000; Technical Reference: NP00603330J010DFCT10000; Capacitance: 33pF; Ceramic Type: NP0; ComponentLink1Description: Manufacturer Link; ComponentLink1URL: http://www.we-online.de; ComponentLink2Description: Datasheet; ComponentLink2URL: https://www.we-online.com/catalog/datasheet/885012006005.pdf; Height: 0.8mm; Length: 1.6mm; Mounting Technology: SMT; Operating Temperature max.: 125C; Operating Temperature min.: -55C; Packaging: Tape and Reel; Rated Voltage: 10V; Size: 0603; Width: 0.8mm
footprint WCAP-CSGP_0603_L1.6W0.8H0.8_Wave
footprint WCAP-CSGP_0603_L1.6W0.8H0.8_Reflow
pins: 1, 2

## 885012006006
designator C?, comment 47pF, 10V
WCAP-CSGP Multilayer Ceramic Chip Capacitor, General Purpose, size 0603, NP0, 47pF, 10V; Manufacturer: Wurth Elektronik; Manufacturer Part Number: 885012006006; Capacitance Tolerance: +/-5%; Isolation Resistance: 10GOhm; Q-Factor: 1000; Technical Reference: NP00603470J010DFCT10000; Capacitance: 47pF; Ceramic Type: NP0; ComponentLink1Description: Manufacturer Link; ComponentLink1URL: http://www.we-online.de; ComponentLink2Description: Datasheet; ComponentLink2URL: https://www.we-online.com/catalog/datasheet/885012006006.pdf; Height: 0.8mm; Length: 1.6mm; Mounting Technology: SMT; Operating Temperature max.: 125C; Operating Temperature min.: -55C; Packaging: Tape and Reel; Rated Voltage: 10V; Size: 0603; Width: 0.8mm
footprint WCAP-CSGP_0603_L1.6W0.8H0.8_Wave
footprint WCAP-CSGP_0603_L1.6W0.8H0.8_Reflow
pins: 1, 2

## 885012006007
designator C?, comment 68pF, 10V
WCAP-CSGP Multilayer Ceramic Chip Capacitor, General Purpose, size 0603, NP0, 68pF, 10V; Manufacturer: Wurth Elektronik; Manufacturer Part Number: 885012006007; Capacitance Tolerance: +/-5%; Isolation Resistance: 10GOhm; Q-Factor: 1000; Technical Reference: NP00603680J010DFCT10000; Capacitance: 68pF; Ceramic Type: NP0; ComponentLink1Description: Manufacturer Link; ComponentLink1URL: http://www.we-online.de; ComponentLink2Description: Datasheet; ComponentLink2URL: https://www.we-online.com/catalog/datasheet/885012006007.pdf; Height: 0.8mm; Length: 1.6mm; Mounting Technology: SMT; Operating Temperature max.: 125C; Operating Temperature min.: -55C; Packaging: Tape and Reel; Rated Voltage: 10V; Size: 0603; Width: 0.8mm
footprint WCAP-CSGP_0603_L1.6W0.8H0.8_Wave
footprint WCAP-CSGP_0603_L1.6W0.8H0.8_Reflow
pins: 1, 2

## 885012006008
designator C?, comment 100pF, 10V
WCAP-CSGP Multilayer Ceramic Chip Capacitor, General Purpose, size 0603, NP0, 100pF, 10V; Manufacturer: Wurth Elektronik; Manufacturer Part Number: 885012006008; Capacitance Tolerance: +/-5%; Isolation Resistance: 10GOhm; Q-Factor: 1000; Technical Reference: NP00603101J010DFCT10000; Capacitance: 100pF; Ceramic Type: NP0; ComponentLink1Description: Manufacturer Link; ComponentLink1URL: http://www.we-online.de; ComponentLink2Description: Datasheet; ComponentLink2URL: https://www.we-online.com/catalog/datasheet/885012006008.pdf; Height: 0.8mm; Length: 1.6mm; Mounting Technology: SMT; Operating Temperature max.: 125C; Operating Temperature min.: -55C; Packaging: Tape and Reel; Rated Voltage: 10V; Size: 0603; Width: 0.8mm
footprint WCAP-CSGP_0603_L1.6W0.8H0.8_Wave
footprint WCAP-CSGP_0603_L1.6W0.8H0.8_Reflow
pins: 1, 2

## 885012006009
designator C?, comment 150pF, 10V
WCAP-CSGP Multilayer Ceramic Chip Capacitor, General Purpose, size 0603, NP0, 150pF, 10V; Manufacturer: Wurth Elektronik; Manufacturer Part Number: 885012006009; Capacitance Tolerance: +/-5%; Isolation Resistance: 10GOhm; Q-Factor: 1000; Technical Reference: NP00603151J010DFCT10000; Capacitance: 150pF; Ceramic Type: NP0; ComponentLink1Description: Manufacturer Link; ComponentLink1URL: http://www.we-online.de; ComponentLink2Description: Datasheet; ComponentLink2URL: https://www.we-online.com/catalog/datasheet/885012006009.pdf; Height: 0.8mm; Length: 1.6mm; Mounting Technology: SMT; Operating Temperature max.: 125C; Operating Temperature min.: -55C; Packaging: Tape and Reel; Rated Voltage: 10V; Size: 0603; Width: 0.8mm
footprint WCAP-CSGP_0603_L1.6W0.8H0.8_Wave
footprint WCAP-CSGP_0603_L1.6W0.8H0.8_Reflow
pins: 1, 2

## 885012006010
designator C?, comment 220pF, 10V
WCAP-CSGP Multilayer Ceramic Chip Capacitor, General Purpose, size 0603, NP0, 220pF, 10V; Manufacturer: Wurth Elektronik; Manufacturer Part Number: 885012006010; Capacitance Tolerance: +/-5%; Isolation Resistance: 10GOhm; Q-Factor: 1000; Technical Reference: NP00603221J010DFCT10000; Capacitance: 220pF; Ceramic Type: NP0; ComponentLink1Description: Manufacturer Link; ComponentLink1URL: http://www.we-online.de; ComponentLink2Description: Datasheet; ComponentLink2URL: https://www.we-online.com/catalog/datasheet/885012006010.pdf; Height: 0.8mm; Length: 1.6mm; Mounting Technology: SMT; Operating Temperature max.: 125C; Operating Temperature min.: -55C; Packaging: Tape and Reel; Rated Voltage: 10V; Size: 0603; Width: 0.8mm
footprint WCAP-CSGP_0603_L1.6W0.8H0.8_Wave
footprint WCAP-CSGP_0603_L1.6W0.8H0.8_Reflow
pins: 1, 2

## 885012006011
designator C?, comment 330pF, 10V
WCAP-CSGP Multilayer Ceramic Chip Capacitor, General Purpose, size 0603, NP0, 330pF, 10V; Manufacturer: Wurth Elektronik; Manufacturer Part Number: 885012006011; Capacitance Tolerance: +/-5%; Isolation Resistance: 10GOhm; Q-Factor: 1000; Technical Reference: NP00603331J010DFCT10000; Capacitance: 330pF; Ceramic Type: NP0; ComponentLink1Description: Manufacturer Link; ComponentLink1URL: http://www.we-online.de; ComponentLink2Description: Datasheet; ComponentLink2URL: https://www.we-online.com/catalog/datasheet/885012006011.pdf; Height: 0.8mm; Length: 1.6mm; Mounting Technology: SMT; Operating Temperature max.: 125C; Operating Temperature min.: -55C; Packaging: Tape and Reel; Rated Voltage: 10V; Size: 0603; Width: 0.8mm
footprint WCAP-CSGP_0603_L1.6W0.8H0.8_Wave
footprint WCAP-CSGP_0603_L1.6W0.8H0.8_Reflow
pins: 1, 2

## 885012006012
designator C?, comment 470pF, 10V
WCAP-CSGP Multilayer Ceramic Chip Capacitor, General Purpose, size 0603, NP0, 470pF, 10V; Manufacturer: Wurth Elektronik; Manufacturer Part Number: 885012006012; Capacitance Tolerance: +/-5%; Isolation Resistance: 10GOhm; Q-Factor: 1000; Technical Reference: NP00603471J010DFCT10000; Capacitance: 470pF; Ceramic Type: NP0; ComponentLink1Description: Manufacturer Link; ComponentLink1URL: http://www.we-online.de; ComponentLink2Description: Datasheet; ComponentLink2URL: https://www.we-online.com/catalog/datasheet/885012006012.pdf; Height: 0.8mm; Length: 1.6mm; Mounting Technology: SMT; Operating Temperature max.: 125C; Operating Temperature min.: -55C; Packaging: Tape and Reel; Rated Voltage: 10V; Size: 0603; Width: 0.8mm
footprint WCAP-CSGP_0603_L1.6W0.8H0.8_Wave
footprint WCAP-CSGP_0603_L1.6W0.8H0.8_Reflow
pins: 1, 2

## 885012006013
designator C?, comment 680pF, 10V
WCAP-CSGP Multilayer Ceramic Chip Capacitor, General Purpose, size 0603, NP0, 680pF, 10V; Manufacturer: Wurth Elektronik; Manufacturer Part Number: 885012006013; Capacitance Tolerance: +/-5%; Isolation Resistance: 10GOhm; Q-Factor: 1000; Technical Reference: NP00603681J010DFCT10000; Capacitance: 680pF; Ceramic Type: NP0; ComponentLink1Description: Manufacturer Link; ComponentLink1URL: http://www.we-online.de; ComponentLink2Description: Datasheet; ComponentLink2URL: https://www.we-online.com/catalog/datasheet/885012006013.pdf; Height: 0.8mm; Length: 1.6mm; Mounting Technology: SMT; Operating Temperature max.: 125C; Operating Temperature min.: -55C; Packaging: Tape and Reel; Rated Voltage: 10V; Size: 0603; Width: 0.8mm
footprint WCAP-CSGP_0603_L1.6W0.8H0.8_Wave
footprint WCAP-CSGP_0603_L1.6W0.8H0.8_Reflow
pins: 1, 2

## 885012006014
designator C?, comment 1nF, 10V
WCAP-CSGP Multilayer Ceramic Chip Capacitor, General Purpose, size 0603, NP0, 1nF, 10V; Manufacturer: Wurth Elektronik; Manufacturer Part Number: 885012006014; Capacitance Tolerance: +/-5%; Isolation Resistance: 10GOhm; Q-Factor: 1000; Technical Reference: NP00603102J010DFCT10000; Capacitance: 1nF; Ceramic Type: NP0; ComponentLink1Description: Manufacturer Link; ComponentLink1URL: http://www.we-online.de; ComponentLink2Description: Datasheet; ComponentLink2URL: https://www.we-online.com/catalog/datasheet/885012006014.pdf; Height: 0.8mm; Length: 1.6mm; Mounting Technology: SMT; Operating Temperature max.: 125C; Operating Temperature min.: -55C; Packaging: Tape and Reel; Rated Voltage: 10V; Size: 0603; Width: 0.8mm
footprint WCAP-CSGP_0603_L1.6W0.8H0.8_Wave
footprint WCAP-CSGP_0603_L1.6W0.8H0.8_Reflow
pins: 1, 2

## 885012006015
designator C?, comment 2.2nF, 10V
WCAP-CSGP Multilayer Ceramic Chip Capacitor, General Purpose, size 0603, NP0, 2.2nF, 10V; Manufacturer: Wurth Elektronik; Manufacturer Part Number: 885012006015; Capacitance Tolerance: +/-5%; Isolation Resistance: 10GOhm; Q-Factor: 1000; Technical Reference: NP00603222J010DFCT10000; Capacitance: 2.2nF; Ceramic Type: NP0; ComponentLink1Description: Manufacturer Link; ComponentLink1URL: http://www.we-online.de; ComponentLink2Description: Datasheet; ComponentLink2URL: https://www.we-online.com/catalog/datasheet/885012006015.pdf; Height: 0.8mm; Length: 1.6mm; Mounting Technology: SMT; Operating Temperature max.: 125C; Operating Temperature min.: -55C; Packaging: Tape and Reel; Rated Voltage: 10V; Size: 0603; Width: 0.8mm
footprint WCAP-CSGP_0603_L1.6W0.8H0.8_Wave
footprint WCAP-CSGP_0603_L1.6W0.8H0.8_Reflow
pins: 1, 2